# EAGLE library part XIAO-NRF52840/SENSE (library Seeed Studio XIAO Series)
Seeed Studio XIAO nRF52840/Sense - Nordic nRF52840 BLE Microcontroller - 32-bit 64MHz ARM® Cortex® M4+ processor XIAO nRF52840 Seeed SKU: 102010448 Seeed Studio XIAO nRF52840 featuring Nordic nRF52840 MCU supports Bluetooth 5.0 & NFC and is Arduino-compatible. With its exquisite design, Bluetooth and built-in Type-C, it's perfect for TinyML, smart wearable devices, and IoT projects. Buy now <https://www.seeedstudio.com/Seeed-XIAO-BLE-nRF52840-p-5201.html> Wiki <https://wiki.seeedstudio.com/XIAO_BLE/> XIAO nRF52840 Sense Seeed SKU: 102010469 Seeed Studio XIAO nRF52840 Sense is a tiny Bluetooth BLE development board designed for IoT and AI applications. It features an onboard antenna, 6 Dof IMU, microphone, all of which make it an ideal board to run AI using TinyML and TensorFlow Lite. Buy now <https://www.seeedstudio.com/Seeed-XIAO-BLE-Sense-nRF52840-p-5253.html> Wiki <https://wiki.seeedstudio.com/XIAO_BLE/>
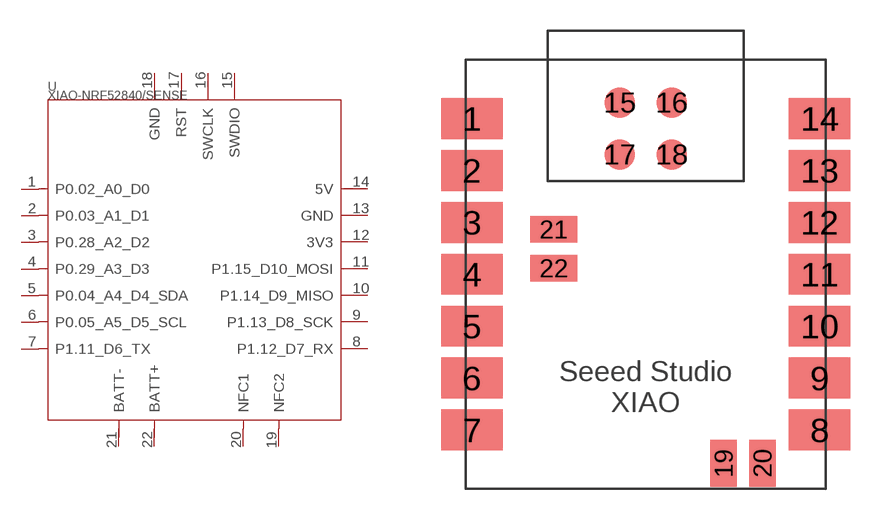
[diagram p2: symbol with the pads of XIAO-NRF52840/SENSE-MODULE14P-2.54-21X17.8MM; footprint XIAO-NRF52840/SENSE-MODULE14P-2.54-21X17.8MM]

Designator prefix U

## XIAO-NRF52840/SENSE  [XIAO-NRF52840/SENSE-MODULE14P-2.54-21X17.8MM]
1  P0.02_A0_D0
2  P0.03_A1_D1
3  P0.28_A2_D2
4  P0.29_A3_D3
5  P0.04_A4_D4_SDA
6  P0.05_A5_D5_SCL
7  P1.11_D6_TX
8  P1.12_D7_RX
9  P1.13_D8_SCK
10  P1.14_D9_MISO
11  P1.15_D10_MOSI
12  3V3
13  GND
14  5V
15  SWDIO
16  SWCLK
17  RST
18  GND
19  NFC2
20  NFC1
21  BATT-
22  BATT+

## Footprint XIAO-NRF52840/SENSE-MODULE14P-2.54-21X17.8MM (pad centres in mm)
smd 3 x 2: 1 -8.5,7.62; 2 -8.5,5.08; 3 -8.5,2.54; 4 -8.5,0; 5 -8.5,-2.54; 6 -8.5,-5.08; 7 -8.5,-7.62; 8 8.5,-7.62; 9 8.5,-5.08; 10 8.5,-2.54; 11 8.5,0; 12 8.5,2.54; 13 8.5,5.08; 14 8.5,7.62
smd 1.5 x 1.5: 15 -1.27,8.39; 16 1.27,8.39; 17 -1.27,5.85; 18 1.27,5.85
smd 1.3 x 2.3: 19 3.8,-9.25; 20 5.7,-9.25
smd 2.3 x 1.3: 21 -4.5,2.2; 22 -4.5,0.3